# EAGLE library part PIC10F320 (library MICROCHIP)
Microchip PIC10F320 6-Pin Flash-Based, 8-Bit Microcontroller Location: MCU/MICROCHIP
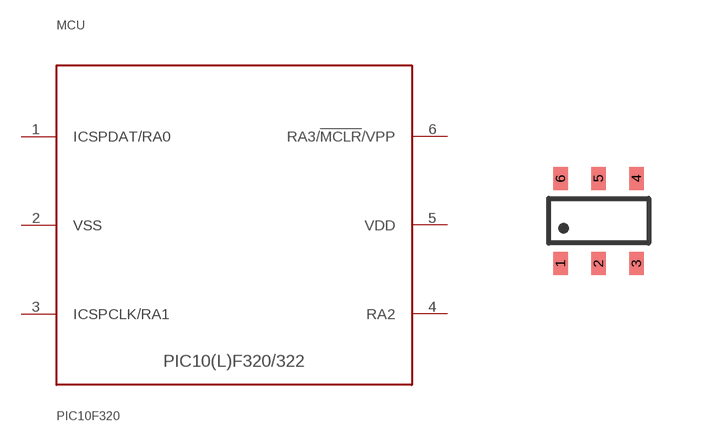
[diagram p6: symbol with the pads of SOT23-6; footprint SOT23-6]

Designator prefix MCU

## PIC10F320SMD  [SOT23-6]
1  ICSPDAT/RA0
2  VSS  pwr
3  ICSPCLK/RA1
4  RA2
5  VDD  pwr
6  RA3/!MCLR!/VPP

## Footprint SOT23-6 (pad centres in mm)
smd 0.355 x 0.575: 1 -0.95,-1.062; 2 0,-1.062; 3 0.95,-1.062; 4 0.95,1.062; 5 0,1.062; 6 -0.95,1.062